# Altium schematic symbol library Transistor_BJT.SchLib: 308 symbols (part 2 of 2)
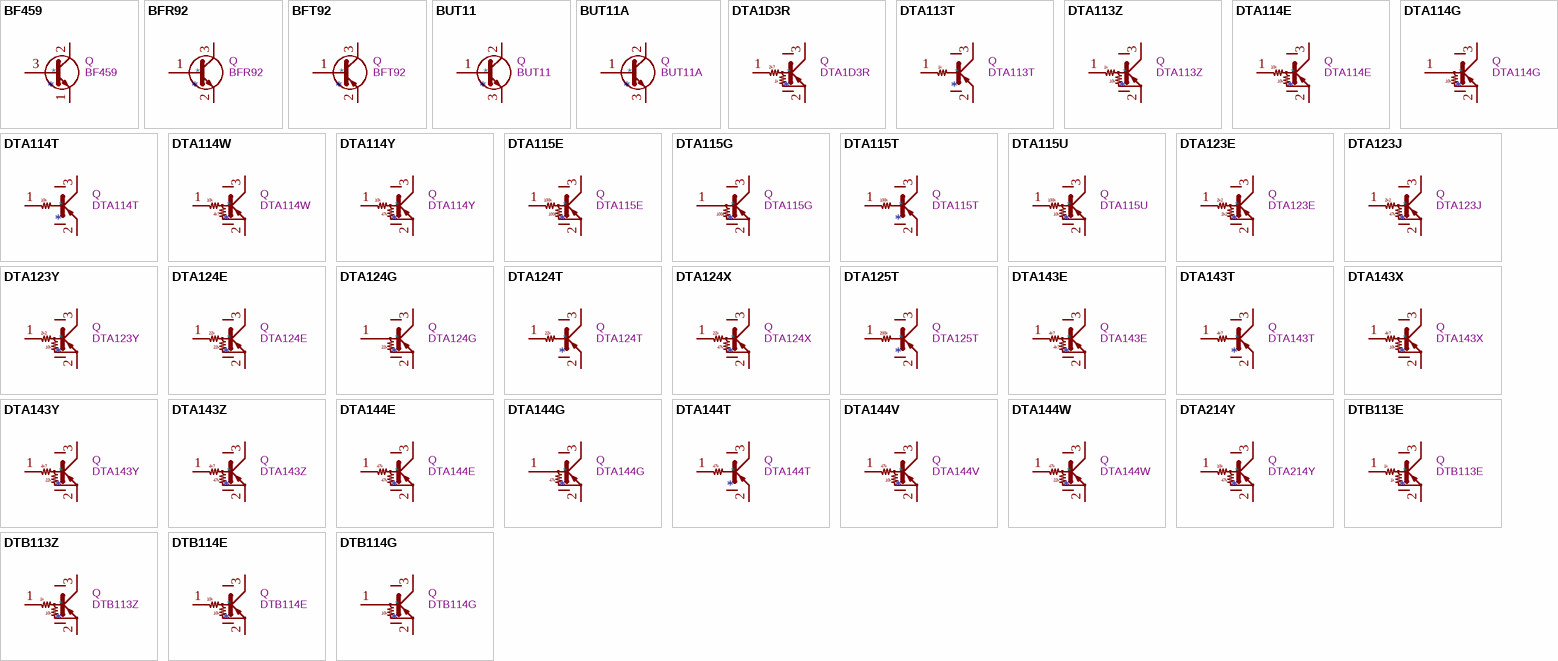
[diagram p9: symbols BF459 to DTB114G]

## DTA114Y
designator *  value DTA114Y  Reference: Q
ki_keywords: ROHM Digital PNP Transistor; ki_description: Digital PNP Transistor, 10k/47k, SOT-23; ki_fp_filters: SOT?23* SC?59*
pins: 1 B, 2 E, 3 C
text: 10k; 47k

## DTA115E
designator *  value DTA115E  Reference: Q
ki_keywords: ROHM Digital PNP Transistor; ki_description: Digital PNP Transistor, 100k/100k, SOT-23; ki_fp_filters: SOT?23* SC?59*
pins: 1 B, 2 E, 3 C
text: 100k

## DTA115G
designator *  value DTA115G  Reference: Q
ki_keywords: ROHM Digital PNP Transistor; ki_description: Digital PNP Transistor, 0k/100k, SOT-23; ki_fp_filters: SOT?23* SC?59*
pins: 1 B, 2 E, 3 C
text: 100k

## DTA115T
designator *  value DTA115T  Reference: Q
ki_keywords: ROHM Digital PNP Transistor; ki_description: Digital PNP Transistor, 100k/NONE, SOT-23; ki_fp_filters: SOT?23* SC?59*
pins: 1 B, 2 E, 3 C
text: 100k

## DTA115U
designator *  value DTA115U  Reference: Q
ki_keywords: ROHM Digital PNP Transistor; ki_description: Digital PNP Transistor, 100k/10k, SOT-23; ki_fp_filters: SOT?23* SC?59*
pins: 1 B, 2 E, 3 C
text: 100k; 10k

## DTA123E
designator *  value DTA123E  Reference: Q
ki_keywords: ROHM Digital PNP Transistor; ki_description: Digital PNP Transistor, 2k2/2k2, SOT-23; ki_fp_filters: SOT?23* SC?59*
pins: 1 B, 2 E, 3 C
text: 2k2

## DTA123J
designator *  value DTA123J  Reference: Q
ki_keywords: ROHM Digital PNP Transistor; ki_description: Digital PNP Transistor, 2k2/47k, SOT-23; ki_fp_filters: SOT?23* SC?59*
pins: 1 B, 2 E, 3 C
text: 2k2; 47k

## DTA123Y
designator *  value DTA123Y  Reference: Q
ki_keywords: ROHM Digital PNP Transistor; ki_description: Digital PNP Transistor, 2k2/10k, SOT-23; ki_fp_filters: SOT?23* SC?59*
pins: 1 B, 2 E, 3 C
text: 2k2; 10k

## DTA124E
designator *  value DTA124E  Reference: Q
ki_keywords: ROHM Digital PNP Transistor; ki_description: Digital PNP Transistor, 22k/22k, SOT-23; ki_fp_filters: SOT?23* SC?59*
pins: 1 B, 2 E, 3 C
text: 22k

## DTA124G
designator *  value DTA124G  Reference: Q
ki_keywords: ROHM Digital PNP Transistor; ki_description: Digital PNP Transistor, 0k/22k, SOT-23; ki_fp_filters: SOT?23* SC?59*
pins: 1 B, 2 E, 3 C
text: 22k

## DTA124T
designator *  value DTA124T  Reference: Q
ki_keywords: ROHM Digital PNP Transistor; ki_description: Digital PNP Transistor, 22k/NONE, SOT-23; ki_fp_filters: SOT?23* SC?59*
pins: 1 B, 2 E, 3 C
text: 22k

## DTA124X
designator *  value DTA124X  Reference: Q
ki_keywords: ROHM Digital PNP Transistor; ki_description: Digital PNP Transistor, 22k/47k, SOT-23; ki_fp_filters: SOT?23* SC?59*
pins: 1 B, 2 E, 3 C
text: 22k; 47k

## DTA125T
designator *  value DTA125T  Reference: Q
ki_keywords: ROHM Digital PNP Transistor; ki_description: Digital PNP Transistor, 200k/NONE, SOT-23; ki_fp_filters: SOT?23* SC?59*
pins: 1 B, 2 E, 3 C
text: 200k

## DTA143E
designator *  value DTA143E  Reference: Q
ki_keywords: ROHM Digital PNP Transistor; ki_description: Digital PNP Transistor, 4k7/4k7, SOT-23; ki_fp_filters: SOT?23* SC?59*
pins: 1 B, 2 E, 3 C
text: 4k7

## DTA143T
designator *  value DTA143T  Reference: Q
ki_keywords: ROHM Digital PNP Transistor; ki_description: Digital PNP Transistor, 4k7/NONE, SOT-23; ki_fp_filters: SOT?23* SC?59*
pins: 1 B, 2 E, 3 C
text: 4k7

## DTA143X
designator *  value DTA143X  Reference: Q
ki_keywords: ROHM Digital PNP Transistor; ki_description: Digital PNP Transistor, 4k7/10k, SOT-23; ki_fp_filters: SOT?23* SC?59*
pins: 1 B, 2 E, 3 C
text: 4k7; 10k

## DTA143Y
designator *  value DTA143Y  Reference: Q
ki_keywords: ROHM Digital PNP Transistor; ki_description: Digital PNP Transistor, 4k7/22k, SOT-23; ki_fp_filters: SOT?23* SC?59*
pins: 1 B, 2 E, 3 C
text: 4k7; 22k

## DTA143Z
designator *  value DTA143Z  Reference: Q
ki_keywords: ROHM Digital PNP Transistor; ki_description: Digital PNP Transistor, 4k7/47k, SOT-23; ki_fp_filters: SOT?23* SC?59*
pins: 1 B, 2 E, 3 C
text: 4k7; 47k

## DTA144E
designator *  value DTA144E  Reference: Q
ki_keywords: ROHM Digital PNP Transistor; ki_description: Digital PNP Transistor, 47k/47k, SOT-23; ki_fp_filters: SOT?23* SC?59*
pins: 1 B, 2 E, 3 C
text: 47k

## DTA144G
designator *  value DTA144G  Reference: Q
ki_keywords: ROHM Digital PNP Transistor; ki_description: Digital PNP Transistor, 0k/47k, SOT-23; ki_fp_filters: SOT?23* SC?59*
pins: 1 B, 2 E, 3 C
text: 47k

## DTA144T
designator *  value DTA144T  Reference: Q
ki_keywords: ROHM Digital PNP Transistor; ki_description: Digital PNP Transistor, 47k/NONE, SOT-23; ki_fp_filters: SOT?23* SC?59*
pins: 1 B, 2 E, 3 C
text: 47k

## DTA144V
designator *  value DTA144V  Reference: Q
ki_keywords: ROHM Digital PNP Transistor; ki_description: Digital PNP Transistor, 47k/10k, SOT-23; ki_fp_filters: SOT?23* SC?59*
pins: 1 B, 2 E, 3 C
text: 47k; 10k

## DTA144W
designator *  value DTA144W  Reference: Q
ki_keywords: ROHM Digital PNP Transistor; ki_description: Digital PNP Transistor, 47k/22k, SOT-23; ki_fp_filters: SOT?23* SC?59*
pins: 1 B, 2 E, 3 C
text: 47k; 22k

## DTA214Y
designator *  value DTA214Y  Reference: Q
ki_keywords: ROHM Digital PNP Transistor; ki_description: Digital PNP Transistor, 10k/47k, SOT-23; ki_fp_filters: SOT?23* SC?59*
pins: 1 B, 2 E, 3 C
text: 10k; 47k

## DTB113E
designator *  value DTB113E  Reference: Q
ki_keywords: ROHM Digital PNP Transistor; ki_description: Digital PNP Transistor, 1k/1k, SOT-23; ki_fp_filters: SOT?23* SC?59*
pins: 1 B, 2 E, 3 C
text: 1k

## DTB113Z
designator *  value DTB113Z  Reference: Q
ki_keywords: ROHM Digital PNP Transistor; ki_description: Digital PNP Transistor, 1k/10k, SOT-23; ki_fp_filters: SOT?23* SC?59*
pins: 1 B, 2 E, 3 C
text: 1k; 10k

## DTB114E
designator *  value DTB114E  Reference: Q
ki_keywords: ROHM Digital PNP Transistor; ki_description: Digital PNP Transistor, 10k/10k, SOT-23; ki_fp_filters: SOT?23* SC?59*
pins: 1 B, 2 E, 3 C
text: 10k

## DTB114G
designator *  value DTB114G  Reference: Q
ki_keywords: ROHM Digital PNP Transistor; ki_description: Digital PNP Transistor, 0k/10k, SOT-23; ki_fp_filters: SOT?23* SC?59*
pins: 1 B, 2 E, 3 C
text: 10k

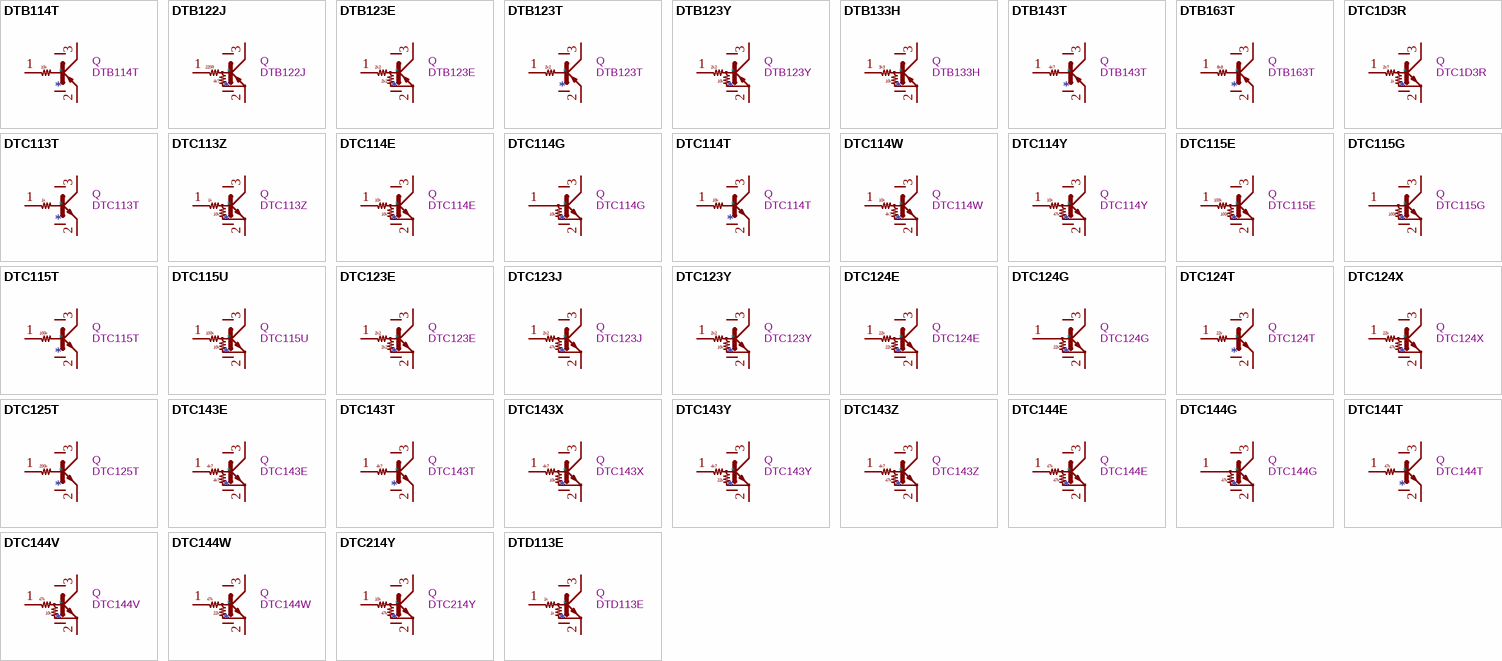
[diagram p5: symbols DTB114T to DTD113E]

## DTB114T
designator *  value DTB114T  Reference: Q
ki_keywords: ROHM Digital PNP Transistor; ki_description: Digital PNP Transistor, 10k/NONE, SOT-23; ki_fp_filters: SOT?23* SC?59*
pins: 1 B, 2 E, 3 C
text: 10k

## DTB122J
designator *  value DTB122J  Reference: Q
ki_keywords: ROHM Digital PNP Transistor; ki_description: Digital PNP Transistor, 0k22/4k7, SOT-23; ki_fp_filters: SOT?23* SC?59*
pins: 1 B, 2 E, 3 C
text: 220R; 4k7

## DTB123E
designator *  value DTB123E  Reference: Q
ki_keywords: ROHM Digital PNP Transistor; ki_description: Digital PNP Transistor, 2k2/2k2, SOT-23; ki_fp_filters: SOT?23* SC?59*
pins: 1 B, 2 E, 3 C
text: 2k2

## DTB123T
designator *  value DTB123T  Reference: Q
ki_keywords: ROHM Digital PNP Transistor; ki_description: Digital PNP Transistor, 2k2/NONE, SOT-23; ki_fp_filters: SOT?23* SC?59*
pins: 1 B, 2 E, 3 C
text: 2k2

## DTB123Y
designator *  value DTB123Y  Reference: Q
ki_keywords: ROHM Digital PNP Transistor; ki_description: Digital PNP Transistor, 2k2/10k, SOT-23; ki_fp_filters: SOT?23* SC?59*
pins: 1 B, 2 E, 3 C
text: 2k2; 10k

## DTB133H
designator *  value DTB133H  Reference: Q
ki_keywords: ROHM Digital PNP Transistor; ki_description: Digital PNP Transistor, 3k3/10k, SOT-23; ki_fp_filters: SOT?23* SC?59*
pins: 1 B, 2 E, 3 C
text: 3k3; 10k

## DTB143T
designator *  value DTB143T  Reference: Q
ki_keywords: ROHM Digital PNP Transistor; ki_description: Digital PNP Transistor, 4k7/NONE, SOT-23; ki_fp_filters: SOT?23* SC?59*
pins: 1 B, 2 E, 3 C
text: 4k7

## DTB163T
designator *  value DTB163T  Reference: Q
ki_keywords: ROHM Digital PNP Transistor; ki_description: Digital PNP Transistor, 6k8/NONE, SOT-23; ki_fp_filters: SOT?23* SC?59*
pins: 1 B, 2 E, 3 C
text: 6k8

## DTC1D3R
designator *  value DTC1D3R  Reference: Q
ki_keywords: ROHM Digital NPN Transistor; ki_description: Digital NPN Transistor, 2k7/1k, SOT-23; ki_fp_filters: SOT?23* SC?59*
pins: 1 B, 2 E, 3 C
text: 2k7; 1k

## DTC113T
designator *  value DTC113T  Reference: Q
ki_keywords: ROHM Digital NPN Transistor; ki_description: Digital NPN Transistor, 1k/NONE, SOT-23; ki_fp_filters: SOT?23* SC?59*
pins: 1 B, 2 E, 3 C
text: 1k

## DTC113Z
designator *  value DTC113Z  Reference: Q
ki_keywords: ROHM Digital NPN Transistor; ki_description: Digital NPN Transistor, 1k/10k, SOT-23; ki_fp_filters: SOT?23* SC?59*
pins: 1 B, 2 E, 3 C
text: 1k; 10k

## DTC114E
designator *  value DTC114E  Reference: Q
ki_keywords: ROHM Digital NPN Transistor; ki_description: Digital NPN Transistor, 10k/10k, SOT-23; ki_fp_filters: SOT?23* SC?59*
pins: 1 B, 2 E, 3 C
text: 10k

## DTC114G
designator *  value DTC114G  Reference: Q
ki_keywords: ROHM Digital NPN Transistor; ki_description: Digital NPN Transistor, 0k/10k, SOT-23; ki_fp_filters: SOT?23* SC?59*
pins: 1 B, 2 E, 3 C
text: 10k

## DTC114T
designator *  value DTC114T  Reference: Q
ki_keywords: ROHM Digital NPN Transistor; ki_description: Digital NPN Transistor, 10k/NONE, SOT-23; ki_fp_filters: SOT?23* SC?59*
pins: 1 B, 2 E, 3 C
text: 10k

## DTC114W
designator *  value DTC114W  Reference: Q
ki_keywords: ROHM Digital NPN Transistor; ki_description: Digital NPN Transistor, 10k/4k7, SOT-23; ki_fp_filters: SOT?23* SC?59*
pins: 1 B, 2 E, 3 C
text: 10k; 4k7

## DTC114Y
designator *  value DTC114Y  Reference: Q
ki_keywords: ROHM Digital NPN Transistor; ki_description: Digital NPN Transistor, 10k/47k, SOT-23; ki_fp_filters: SOT?23* SC?59*
pins: 1 B, 2 E, 3 C
text: 10k; 47k

## DTC115E
designator *  value DTC115E  Reference: Q
ki_keywords: ROHM Digital NPN Transistor; ki_description: Digital NPN Transistor, 100k/100k, SOT-23; ki_fp_filters: SOT?23* SC?59*
pins: 1 B, 2 E, 3 C
text: 100k

## DTC115G
designator *  value DTC115G  Reference: Q
ki_keywords: ROHM Digital NPN Transistor; ki_description: Digital NPN Transistor, 0k/100k, SOT-23; ki_fp_filters: SOT?23* SC?59*
pins: 1 B, 2 E, 3 C
text: 100k

## DTC115T
designator *  value DTC115T  Reference: Q
ki_keywords: ROHM Digital NPN Transistor; ki_description: Digital NPN Transistor, 100k/NONE, SOT-23; ki_fp_filters: SOT?23* SC?59*
pins: 1 B, 2 E, 3 C
text: 100k

## DTC115U
designator *  value DTC115U  Reference: Q
ki_keywords: ROHM Digital NPN Transistor; ki_description: Digital NPN Transistor, 100k/10k, SOT-23; ki_fp_filters: SOT?23* SC?59*
pins: 1 B, 2 E, 3 C
text: 100k; 10k

## DTC123E
designator *  value DTC123E  Reference: Q
ki_keywords: ROHM Digital NPN Transistor; ki_description: Digital NPN Transistor, 2k2/2k2, SOT-23; ki_fp_filters: SOT?23* SC?59*
pins: 1 B, 2 E, 3 C
text: 2k2

## DTC123J
designator *  value DTC123J  Reference: Q
ki_keywords: ROHM Digital NPN Transistor; ki_description: Digital NPN Transistor, 2k2/47k, SOT-23; ki_fp_filters: SOT?23* SC?59*
pins: 1 B, 2 E, 3 C
text: 2k2; 47k

## DTC123Y
designator *  value DTC123Y  Reference: Q
ki_keywords: ROHM Digital NPN Transistor; ki_description: Digital NPN Transistor, 2k2/10k, SOT-23; ki_fp_filters: SOT?23* SC?59*
pins: 1 B, 2 E, 3 C
text: 2k2; 10k

## DTC124E
designator *  value DTC124E  Reference: Q
ki_keywords: ROHM Digital NPN Transistor; ki_description: Digital NPN Transistor, 22k/22k, SOT-23; ki_fp_filters: SOT?23* SC?59*
pins: 1 B, 2 E, 3 C
text: 22k

## DTC124G
designator *  value DTC124G  Reference: Q
ki_keywords: ROHM Digital NPN Transistor; ki_description: Digital NPN Transistor, 0k/22k, SOT-23; ki_fp_filters: SOT?23* SC?59*
pins: 1 B, 2 E, 3 C
text: 22k

## DTC124T
designator *  value DTC124T  Reference: Q
ki_keywords: ROHM Digital NPN Transistor; ki_description: Digital NPN Transistor, 22k/NONE, SOT-23; ki_fp_filters: SOT?23* SC?59*
pins: 1 B, 2 E, 3 C
text: 22k

## DTC124X
designator *  value DTC124X  Reference: Q
ki_keywords: ROHM Digital NPN Transistor; ki_description: Digital NPN Transistor, 22k/47k, SOT-23; ki_fp_filters: SOT?23* SC?59*
pins: 1 B, 2 E, 3 C
text: 22k; 47k

## DTC125T
designator *  value DTC125T  Reference: Q
ki_keywords: ROHM Digital NPN Transistor; ki_description: Digital NPN Transistor, 200k/NONE, SOT-23; ki_fp_filters: SOT?23* SC?59*
pins: 1 B, 2 E, 3 C
text: 200k

## DTC143E
designator *  value DTC143E  Reference: Q
ki_keywords: ROHM Digital NPN Transistor; ki_description: Digital NPN Transistor, 4k7/4k7, SOT-23; ki_fp_filters: SOT?23* SC?59*
pins: 1 B, 2 E, 3 C
text: 4k7

## DTC143T
designator *  value DTC143T  Reference: Q
ki_keywords: ROHM Digital NPN Transistor; ki_description: Digital NPN Transistor, 4k7/NONE, SOT-23; ki_fp_filters: SOT?23* SC?59*
pins: 1 B, 2 E, 3 C
text: 4k7

## DTC143X
designator *  value DTC143X  Reference: Q
ki_keywords: ROHM Digital NPN Transistor; ki_description: Digital NPN Transistor, 4k7/10k, SOT-23; ki_fp_filters: SOT?23* SC?59*
pins: 1 B, 2 E, 3 C
text: 4k7; 10k

## DTC143Y
designator *  value DTC143Y  Reference: Q
ki_keywords: ROHM Digital NPN Transistor; ki_description: Digital NPN Transistor, 4k7/22k, SOT-23; ki_fp_filters: SOT?23* SC?59*
pins: 1 B, 2 E, 3 C
text: 4k7; 22k

## DTC143Z
designator *  value DTC143Z  Reference: Q
ki_keywords: ROHM Digital NPN Transistor; ki_description: Digital NPN Transistor, 4k7/47k, SOT-23; ki_fp_filters: SOT?23* SC?59*
pins: 1 B, 2 E, 3 C
text: 4k7; 47k

## DTC144E
designator *  value DTC144E  Reference: Q
ki_keywords: ROHM Digital NPN Transistor; ki_description: Digital NPN Transistor, 47k/47k, SOT-23; ki_fp_filters: SOT?23* SC?59*
pins: 1 B, 2 E, 3 C
text: 47k

## DTC144G
designator *  value DTC144G  Reference: Q
ki_keywords: ROHM Digital NPN Transistor; ki_description: Digital NPN Transistor, 0k/47k, SOT-23; ki_fp_filters: SOT?23* SC?59*
pins: 1 B, 2 E, 3 C
text: 47k

## DTC144T
designator *  value DTC144T  Reference: Q
ki_keywords: ROHM Digital NPN Transistor; ki_description: Digital NPN Transistor, 47k/NONE, SOT-23; ki_fp_filters: SOT?23* SC?59*
pins: 1 B, 2 E, 3 C
text: 47k

## DTC144V
designator *  value DTC144V  Reference: Q
ki_keywords: ROHM Digital NPN Transistor; ki_description: Digital NPN Transistor, 47k/10k, SOT-23; ki_fp_filters: SOT?23* SC?59*
pins: 1 B, 2 E, 3 C
text: 47k; 10k

## DTC144W
designator *  value DTC144W  Reference: Q
ki_keywords: ROHM Digital NPN Transistor; ki_description: Digital NPN Transistor, 47k/22k, SOT-23; ki_fp_filters: SOT?23* SC?59*
pins: 1 B, 2 E, 3 C
text: 47k; 22k

## DTC214Y
designator *  value DTC214Y  Reference: Q
ki_keywords: ROHM Digital NPN Transistor; ki_description: Digital NPN Transistor, 10k/47k, SOT-23; ki_fp_filters: SOT?23* SC?59*
pins: 1 B, 2 E, 3 C
text: 10k; 47k

## DTD113E
designator *  value DTD113E  Reference: Q
ki_keywords: ROHM Digital NPN Transistor; ki_description: Digital NPN Transistor, 1k/1k, SOT-23; ki_fp_filters: SOT?23* SC?59*
pins: 1 B, 2 E, 3 C
text: 1k

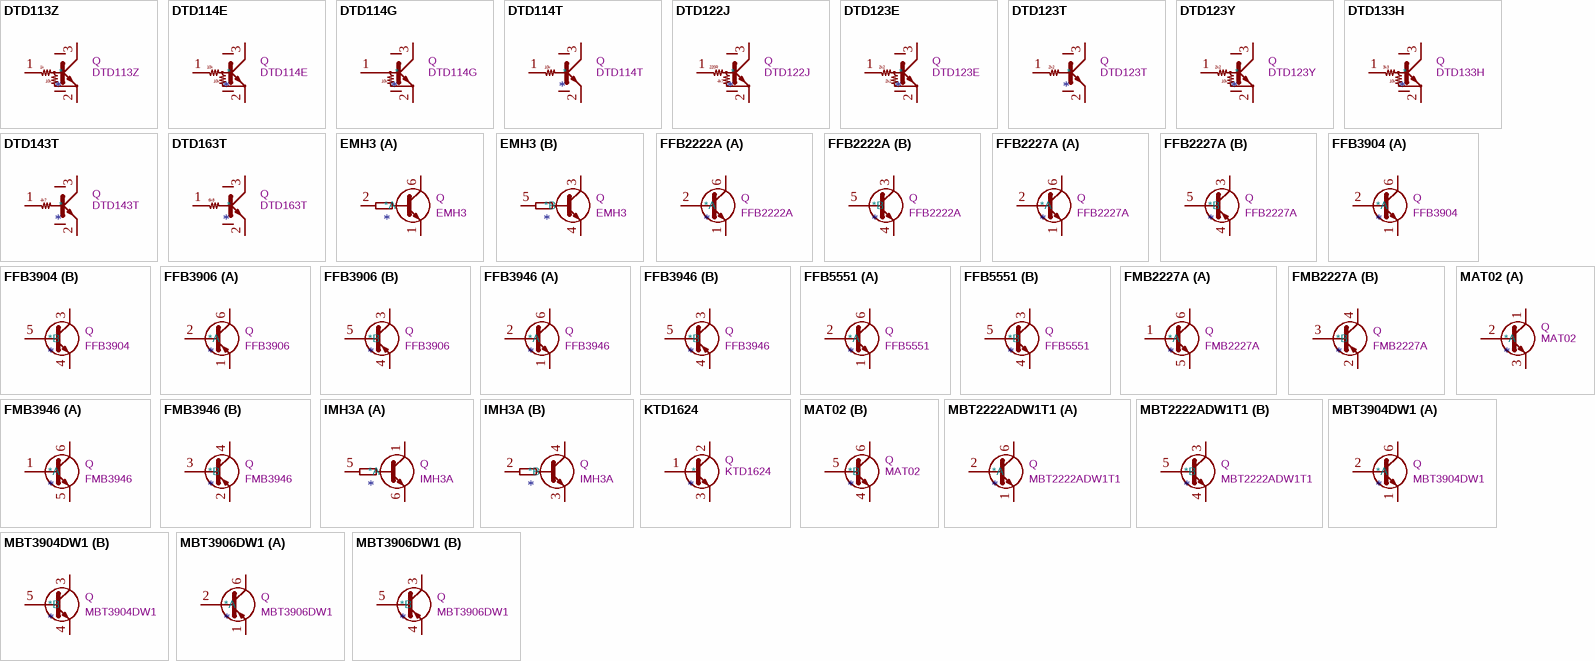
[diagram p6: symbols DTD113Z to MBT3906DW1]

## DTD113Z
designator *  value DTD113Z  Reference: Q
ki_keywords: ROHM Digital NPN Transistor; ki_description: Digital NPN Transistor, 1k/10k, SOT-23; ki_fp_filters: SOT?23* SC?59*
pins: 1 B, 2 E, 3 C
text: 1k; 10k

## DTD114E
designator *  value DTD114E  Reference: Q
ki_keywords: ROHM Digital NPN Transistor; ki_description: Digital NPN Transistor, 10k/10k, SOT-23; ki_fp_filters: SOT?23* SC?59*
pins: 1 B, 2 E, 3 C
text: 10k

## DTD114G
designator *  value DTD114G  Reference: Q
ki_keywords: ROHM Digital NPN Transistor; ki_description: Digital NPN Transistor, 0k/10k, SOT-23; ki_fp_filters: SOT?23* SC?59*
pins: 1 B, 2 E, 3 C
text: 10k

## DTD114T
designator *  value DTD114T  Reference: Q
ki_keywords: ROHM Digital NPN Transistor; ki_description: Digital NPN Transistor, 10k/NONE, SOT-23; ki_fp_filters: SOT?23* SC?59*
pins: 1 B, 2 E, 3 C
text: 10k

## DTD122J
designator *  value DTD122J  Reference: Q
ki_keywords: ROHM Digital NPN Transistor; ki_description: Digital NPN Transistor, 0k22/4k7, SOT-23; ki_fp_filters: SOT?23* SC?59*
pins: 1 B, 2 E, 3 C
text: 220R; 4k7

## DTD123E
designator *  value DTD123E  Reference: Q
ki_keywords: ROHM Digital NPN Transistor; ki_description: Digital NPN Transistor, 2k2/2k2, SOT-23; ki_fp_filters: SOT?23* SC?59*
pins: 1 B, 2 E, 3 C
text: 2k2

## DTD123T
designator *  value DTD123T  Reference: Q
ki_keywords: ROHM Digital NPN Transistor; ki_description: Digital NPN Transistor, 2k2/NONE, SOT-23; ki_fp_filters: SOT?23* SC?59*
pins: 1 B, 2 E, 3 C
text: 2k2

## DTD123Y
designator *  value DTD123Y  Reference: Q
ki_keywords: ROHM Digital NPN Transistor; ki_description: Digital NPN Transistor, 2k2/10k, SOT-23; ki_fp_filters: SOT?23* SC?59*
pins: 1 B, 2 E, 3 C
text: 2k2; 10k

## DTD133H
designator *  value DTD133H  Reference: Q
ki_keywords: ROHM Digital NPN Transistor; ki_description: Digital NPN Transistor, 3k3/10k, SOT-23; ki_fp_filters: SOT?23* SC?59*
pins: 1 B, 2 E, 3 C
text: 3k3; 10k

## DTD143T
designator *  value DTD143T  Reference: Q
ki_keywords: ROHM Digital NPN Transistor; ki_description: Digital NPN Transistor, 4k7/NONE, SOT-23; ki_fp_filters: SOT?23* SC?59*
pins: 1 B, 2 E, 3 C
text: 4k7

## DTD163T
designator *  value DTD163T  Reference: Q
ki_keywords: ROHM Digital NPN Transistor; ki_description: Digital NPN Transistor, 6k8/NONE, SOT-23; ki_fp_filters: SOT?23* SC?59*
pins: 1 B, 2 E, 3 C
text: 6k8

## EMH3
designator *  value EMH3  Reference: Q
ki_keywords: Dual NPN Transistor; ki_description: 0.1A Ic, 50V Vce, Dual NPN Input Resistor Transistors, SOT-563; ki_fp_filters: SOT?563*; Footprint: Package_TO_SOT_SMD:SOT-563; Datasheet: http://rohmfs.rohm.com/en/products/databook/datasheet/discrete/transistor/digital/emh3t2r-e.pdf
part A pins: 1 E1, 2 B1, 6 C1
part B pins: 3 C2, 4 E2, 5 B2

## FFB2222A
designator *  value FFB2222A  Reference: Q
ki_keywords: NPN/NPN Transistor; ki_description: 600mA IC, 40V Vce, Dual NPN/NPN Transistors, SOT-363; ki_fp_filters: SOT?363*; Footprint: Package_TO_SOT_SMD:SOT-363_SC-70-6; Datasheet: https://www.onsemi.com/pub/Collateral/MMPQ2222A-D.pdf
part A pins: 1 E1, 2 B1, 6 C1
part B pins: 3 C2, 4 E2, 5 B2

## FFB2227A
designator *  value FFB2227A  Reference: Q
ki_keywords: NPN/PNP Transistor; ki_description: 500mA IC, 30V Vce, Dual NPN/PNP Transistors, SC-70-6; ki_fp_filters: SOT?363*; Footprint: Package_TO_SOT_SMD:SOT-363_SC-70-6; Datasheet: http://www.onsemi.com/pub/Collateral/FMB2227A-D.PDF
part A pins: 1 E1, 2 B1, 6 C1
part B pins: 3 C2, 4 E2, 5 B2

## FFB3904
designator *  value FFB3904  Reference: Q
ki_keywords: NPN/NPN Transistor; ki_description: 200mA IC, 40V Vce, Dual NPN/NPN Transistors, SOT-363; ki_fp_filters: SOT?363*; Footprint: Package_TO_SOT_SMD:SOT-363_SC-70-6; Datasheet: https://www.onsemi.com/pub/Collateral/MMPQ3904-D.pdf
part A pins: 1 E1, 2 B1, 6 C1
part B pins: 3 C2, 4 E2, 5 B2

## FFB3906
designator *  value FFB3906  Reference: Q
ki_keywords: PNP/PNP Transistor; ki_description: 200mA IC, 40V Vce, Dual PNP/PNP Transistors, SOT-363; ki_fp_filters: SOT?363*; Footprint: Package_TO_SOT_SMD:SOT-363_SC-70-6; Datasheet: https://www.onsemi.com/pub/Collateral/MMPQ3906-D.pdf
part A pins: 1 E1, 2 B1, 6 C1
part B pins: 3 C2, 4 E2, 5 B2

## FFB3946
designator *  value FFB3946  Reference: Q
ki_keywords: NPN/PNP Transistor; ki_description: 200mA IC, 40V Vce, Dual NPN/PNP Transistors, SOT-363; ki_fp_filters: SOT?363*; Footprint: Package_TO_SOT_SMD:SOT-363_SC-70-6; Datasheet: http://www.onsemi.com/pub/Collateral/FMB3946-D.pdf
part A pins: 1 E1, 2 B1, 6 C1
part B pins: 3 C2, 4 E2, 5 B2

## FFB5551
designator *  value FFB5551  Reference: Q
ki_keywords: NPN/NPN Transistor; ki_description: 200mA IC, 160V Vce, Dual NPN/NPN Transistors, SOT-363; ki_fp_filters: SOT?363*; Footprint: Package_TO_SOT_SMD:SOT-363_SC-70-6; Datasheet: https://www.onsemi.com/pub/Collateral/FFB5551-D.PDF
part A pins: 1 E1, 2 B1, 6 C1
part B pins: 3 C2, 4 E2, 5 B2

## FMB2227A
designator *  value FMB2227A  Reference: Q
ki_keywords: NPN/PNP Transistor; ki_description: 500mA IC, 30V Vce, Dual NPN/PNP Transistors, SuperSOT-6; ki_fp_filters: SuperSOT*; Footprint: Package_TO_SOT_SMD:SuperSOT-6; Datasheet: http://www.onsemi.com/pub/Collateral/FMB2227A-D.PDF
part A pins: 1 B1, 5 E1, 6 C1
part B pins: 2 E2, 3 B2, 4 C2

## FMB3946
designator *  value FMB3946  Reference: Q
ki_keywords: NPN/PNP Transistor; ki_description: 200mA IC, 40V Vce, Dual NPN/PNP Transistors, SuperSOT-6; ki_fp_filters: SuperSOT*; Footprint: Package_TO_SOT_SMD:SuperSOT-6; Datasheet: http://www.onsemi.com/pub/Collateral/FMB3946-D.pdf
part A pins: 1 B1, 5 E1, 6 C1
part B pins: 2 E2, 3 B2, 4 C2

## IMH3A
designator *  value IMH3A  Reference: Q
ki_keywords: Dual NPN Transistor; ki_description: 0.1A Ic, 50V Vce, Dual NPN Input Resistor Transistors, SOT-457; ki_fp_filters: ROHM*SOT?457*; Footprint: Package_SO:ROHM_SOT-457_ClockwisePinNumbering; Datasheet: http://rohmfs.rohm.com/en/products/databook/datasheet/discrete/transistor/digital/emh3t2r-e.pdf
part A pins: 1 C1, 5 B1, 6 E1
part B pins: 2 B2, 3 E2, 4 C2

## KTD1624
designator *  value KTD1624  Reference: Q
ki_keywords: Switching NPN Transistor; ki_description: Epitaxial Planar NPN Transistor, SOT-89; ki_fp_filters: SOT?89*; Footprint: Package_TO_SOT_SMD:SOT-89-3; Datasheet: http://www2.kec.co.kr/data/databook/pdf/KTD/Eng/KTD1624.pdf
pins: 1 B, 2 C, 3 E

## MAT02
designator *  value MAT02  Reference: Q
ki_keywords: Precision Dual Monolithic Transistor Low Noise EOL; ki_description: 20mA Ic, 40V Vce, Precision Dual Monolithic Low Noise, Low Offset Transistor, TO-78; ki_fp_filters: TO?78*; Footprint: Package_TO_SOT_THT:TO-78-6; Datasheet: http://www.elenota.pl/datasheet_download/93431/MAT02
part A pins: 1 C, 2 B, 3 E
part B pins: 4 E, 5 B, 6 C

## MBT2222ADW1T1
designator *  value MBT2222ADW1T1  Reference: Q
ki_keywords: NPN/NPN Transistor; ki_description: 600mA IC, 40V Vce, Dual NPN/NPN Transistors, SOT-363; ki_fp_filters: SOT?363*; Footprint: Package_TO_SOT_SMD:SOT-363_SC-70-6; Datasheet: http://www.onsemi.com/pub_link/Collateral/MBT2222ADW1T1-D.PDF
part A pins: 1 E1, 2 B1, 6 C1
part B pins: 3 C2, 4 E2, 5 B2

## MBT3904DW1
designator *  value MBT3904DW1  Reference: Q
ki_keywords: NPN/NPN Transistor; ki_description: 200mA IC, 40V Vce, Dual NPN/NPN Transistors, SOT-363; ki_fp_filters: SOT?363*; Footprint: Package_TO_SOT_SMD:SOT-363_SC-70-6; Datasheet: http://www.onsemi.com/pub_link/Collateral/MBT3904DW1T1-D.PDF
part A pins: 1 E1, 2 B1, 6 C1
part B pins: 3 C2, 4 E2, 5 B2

## MBT3906DW1
designator *  value MBT3906DW1  Reference: Q
ki_keywords: PNP/PNP Transistor; ki_description: 200mA IC, 40V Vce, Dual PNP/PNP Transistors, SOT-363; ki_fp_filters: SOT?363*; Footprint: Package_TO_SOT_SMD:SOT-363_SC-70-6; Datasheet: http://www.onsemi.com/pub_link/Collateral/MBT3906DW1T1-D.PDF
part A pins: 1 E1, 2 B1, 6 C1
part B pins: 3 C2, 4 E2, 5 B2

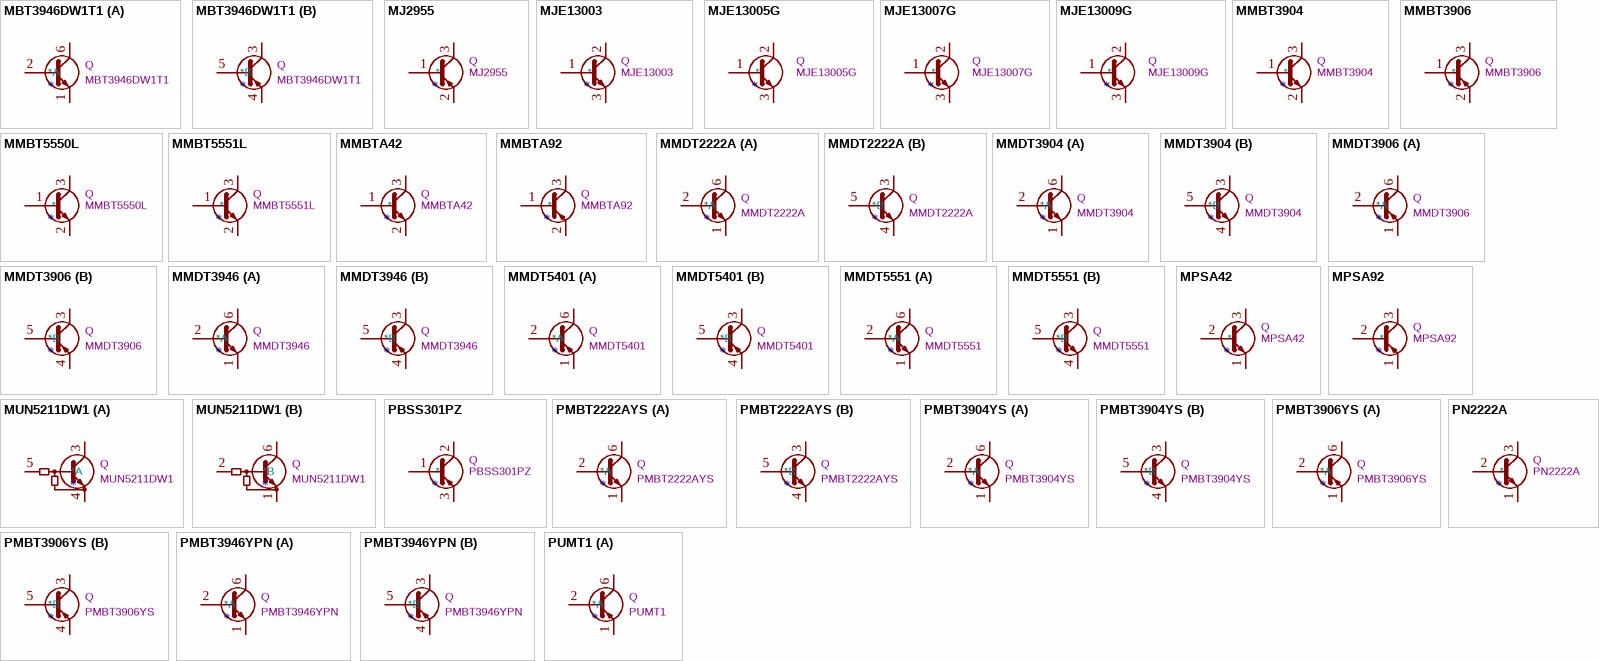
[diagram p7: symbols MBT3946DW1T1 to PUMT1]

## MBT3946DW1T1
designator *  value MBT3946DW1T1  Reference: Q
ki_keywords: NPN/PNP Transistor; ki_description: 200mA IC, 40V Vce, Dual NPN/PNP Transistors, SOT-363; ki_fp_filters: SOT?363*; Footprint: Package_TO_SOT_SMD:SOT-363_SC-70-6; Datasheet: http://www.onsemi.com/pub_link/Collateral/MBT3946DW1T1-D.PDF
part A pins: 1 E1, 2 B1, 6 C1
part B pins: 3 C2, 4 E2, 5 B2

## MJ2955
designator *  value MJ2955  Reference: Q
ki_keywords: power PNP Transistor; ki_description: -15A Ic, -60V Vce, Power PNP Transistor, TO-3; ki_fp_filters: TO?3*; Footprint: Package_TO_SOT_THT:TO-3; Datasheet: http://www.onsemi.com/pub_link/Collateral/2N3055-D.PDF
pins: 1 B, 2 E, 3 C

## MJE13003
designator *  value MJE13003  Reference: Q
ki_keywords: Switching Power High Voltage NPN Transistor; ki_description: 1.5A Ic, 400V Vce, Silicon Switching Power NPN Transistor, TO-225; ki_fp_filters: TO?126*; Footprint: Package_TO_SOT_THT:TO-126-3_Vertical; Datasheet: http://www.onsemi.com/pub_link/Collateral/MJE13003-D.PDF
pins: 1 B, 2 C, 3 E

## MJE13005G
designator *  value MJE13005G  Reference: Q
ki_keywords: Switching Power NPN Transistor; ki_description: 4A Ic, 400V Vce, Silicon Switching Power NPN Transistors, TO-220; ki_fp_filters: TO?220*; Footprint: Package_TO_SOT_THT:TO-220-3_Vertical; Datasheet: http://www.onsemi.com/pub_link/Collateral/MJE13005-D.PDF
pins: 1 B, 2 C, 3 E

## MJE13007G
designator *  value MJE13007G  Reference: Q
ki_keywords: Switching Power NPN Transistor; ki_description: 8A Ic, 400V Vce, Silicon Switching Power NPN Transistors, TO-220; ki_fp_filters: TO?220*; Footprint: Package_TO_SOT_THT:TO-220-3_Vertical; Datasheet: http://www.onsemi.com/pub_link/Collateral/MJE13007-D.PDF
pins: 1 B, 2 C, 3 E

## MJE13009G
designator *  value MJE13009G  Reference: Q
ki_keywords: Switching Power NPN Transistor; ki_description: 12A Ic, 400V Vce, Silicon Switching Power NPN Transistors, TO-220; ki_fp_filters: TO?220*; Footprint: Package_TO_SOT_THT:TO-220-3_Vertical; Datasheet: http://www.onsemi.com/pub_link/Collateral/MJE13009-D.PDF
pins: 1 B, 2 C, 3 E

## MMBT3904
designator *  value MMBT3904  Reference: Q
ki_keywords: NPN Transistor; ki_description: 0.2A Ic, 40V Vce, Small Signal NPN Transistor, SOT-23; ki_fp_filters: SOT?23*; Footprint: Package_TO_SOT_SMD:SOT-23; Datasheet: https://www.onsemi.com/pdf/datasheet/pzt3904-d.pdf
pins: 1 B, 2 E, 3 C

## MMBT3906
designator *  value MMBT3906  Reference: Q
ki_keywords: PNP Transistor; ki_description: -0.2A Ic, -40V Vce, Small Signal PNP Transistor, SOT-23; ki_fp_filters: SOT?23*; Footprint: Package_TO_SOT_SMD:SOT-23; Datasheet: https://www.onsemi.com/pdf/datasheet/pzt3906-d.pdf
pins: 1 B, 2 E, 3 C

## MMBT5550L
designator *  value MMBT5550L  Reference: Q
ki_keywords: NPN Transistor; ki_description: 0.6A Ic, 140V Vce, NPN Transistor, SOT-23; ki_fp_filters: SOT?23*; Footprint: Package_TO_SOT_SMD:SOT-23; Datasheet: www.onsemi.com/pub/Collateral/MMBT5550LT1-D.PDF
pins: 1 B, 2 E, 3 C

## MMBT5551L
designator *  value MMBT5551L  Reference: Q
ki_keywords: NPN Transistor; ki_description: 0.6A Ic, 160V Vce, NPN Transistor, SOT-23; ki_fp_filters: SOT?23*; Footprint: Package_TO_SOT_SMD:SOT-23; Datasheet: www.onsemi.com/pub/Collateral/MMBT5550LT1-D.PDF
pins: 1 B, 2 E, 3 C

## MMBTA42
designator *  value MMBTA42  Reference: Q
ki_keywords: NPN High Voltage Transistor; ki_description: 0.5A Ic, 300V Vce, NPN High Voltage Transistor, SOT-23; ki_fp_filters: SOT?23*; Footprint: Package_TO_SOT_SMD:SOT-23; Datasheet: https://www.onsemi.com/pub/Collateral/MMBTA42LT1-D.PDF
pins: 1 B, 2 E, 3 C

## MMBTA92
designator *  value MMBTA92  Reference: Q
ki_keywords: PNP High Voltage Transistor; ki_description: 0.5A Ic, 300V Vce, PNP High Voltage Transistor, SOT-23; ki_fp_filters: SOT?23*; Footprint: Package_TO_SOT_SMD:SOT-23; Datasheet: https://www.onsemi.com/pub/Collateral/MMBTA92LT1-D.PDF
pins: 1 B, 2 E, 3 C

## MMDT2222A
designator *  value MMDT2222A  Reference: Q
ki_keywords: NPN/NPN Transistor; ki_description: 600mA IC, 40V Vce, Dual NPN/NPN Transistors, SOT-363; ki_fp_filters: SOT?363*; Footprint: Package_TO_SOT_SMD:SOT-363_SC-70-6; Datasheet: http://www.diodes.com/_files/datasheets/ds30125.pdf
part A pins: 1 E1, 2 B1, 6 C1
part B pins: 3 C2, 4 E2, 5 B2

## MMDT3904
designator *  value MMDT3904  Reference: Q
ki_keywords: NPN/NPN Transistor; ki_description: 200mA IC, 40V Vce, Dual NPN/NPN Transistors, SOT-363; ki_fp_filters: SOT?363*; Footprint: Package_TO_SOT_SMD:SOT-363_SC-70-6; Datasheet: http://www.diodes.com/_files/datasheets/ds30088.pdf
part A pins: 1 E1, 2 B1, 6 C1
part B pins: 3 C2, 4 E2, 5 B2

## MMDT3906
designator *  value MMDT3906  Reference: Q
ki_keywords: PNP/PNP Transistor; ki_description: 200mA IC, 40V Vce, Dual PNP/PNP Transistors, SOT-363; ki_fp_filters: SOT?363*; Footprint: Package_TO_SOT_SMD:SOT-363_SC-70-6; Datasheet: http://www.diodes.com/_files/datasheets/ds30124.pdf
part A pins: 1 E1, 2 B1, 6 C1
part B pins: 3 C2, 4 E2, 5 B2

## MMDT3946
designator *  value MMDT3946  Reference: Q
ki_keywords: NPN/PNP Transistor; ki_description: 200mA IC, 40V Vce, Dual NPN/PNP Transistors, SOT-363; ki_fp_filters: SOT?363*; Footprint: Package_TO_SOT_SMD:SOT-363_SC-70-6; Datasheet: http://www.diodes.com/_files/datasheets/ds30123.pdf
part A pins: 1 E1, 2 B1, 6 C1
part B pins: 3 C2, 4 E2, 5 B2

## MMDT5401
designator *  value MMDT5401  Reference: Q
ki_keywords: PNP/PNP Transistor; ki_description: 200mA IC, 160V Vce, Dual PNP/PNP Transistors, SOT-363; ki_fp_filters: SOT?363*; Footprint: Package_TO_SOT_SMD:SOT-363_SC-70-6; Datasheet: http://www.diodes.com/_files/datasheets/ds30169.pdf
part A pins: 1 E1, 2 B1, 6 C1
part B pins: 3 C2, 4 E2, 5 B2

## MMDT5551
designator *  value MMDT5551  Reference: Q
ki_keywords: NPN/NPN Transistor; ki_description: 200mA IC, 160V Vce, Dual NPN/NPN Transistors, SOT-363; ki_fp_filters: SOT?363*; Footprint: Package_TO_SOT_SMD:SOT-363_SC-70-6; Datasheet: http://www.diodes.com/_files/datasheets/ds30172.pdf
part A pins: 1 E1, 2 B1, 6 C1
part B pins: 3 C2, 4 E2, 5 B2

## MPSA42
designator *  value MPSA42  Reference: Q
ki_keywords: NPN High Voltage Transistor; ki_description: 0.5A Ic, 300V Vce, NPN High Voltage Transistor, TO-92; ki_fp_filters: TO?92*; Footprint: Package_TO_SOT_THT:TO-92_Inline; Datasheet: http://www.onsemi.com/pub_link/Collateral/MPSA42-D.PDF
pins: 1 E, 2 B, 3 C

## MPSA92
designator *  value MPSA92  Reference: Q
ki_keywords: PNP High Voltage Transistor; ki_description: 0.5A Ic, 300V Vce, PNP High Voltage Transistor, TO-92; ki_fp_filters: TO?92*; Footprint: Package_TO_SOT_THT:TO-92_Inline; Datasheet: http://www.onsemi.com/pub_link/Collateral/MPSA92-D.PDF
pins: 1 E, 2 B, 3 C

## MUN5211DW1
designator *  value MUN5211DW1  Reference: Q
ki_keywords: Dual NPN Transistor; ki_description: 0.1A Ic, 50V Vce, Dual NPN Bias Resistor Transistors, SOT-363; ki_fp_filters: SOT*363*; Footprint: Package_TO_SOT_SMD:SOT-363_SC-70-6; Datasheet: http://www.onsemi.com/pub/Collateral/DTC114ED-D.PDF
part A pins: 3 C1, 4 E1, 5 B1
part B pins: 1 E2, 2 B2, 6 C2

## PBSS301PZ
designator *  value PBSS301PZ  Reference: Q
ki_keywords: PNP Transistor; ki_description: -5.7A Ic, -12V Vce, Small Signal PNP Transistor, SOT-223; ki_fp_filters: SOT?223*; Footprint: Package_TO_SOT_SMD:SOT-223-3_TabPin2; Datasheet: https://assets.nexperia.com/documents/data-sheet/PBSS301PZ.pdf
pins: 1 B, 2 C, 3 E, 4 C hidden

## PMBT2222AYS
designator *  value PMBT2222AYS  Reference: Q
ki_keywords: NPN/NPN Transistor; ki_description: 600mA IC, 40V Vce, Dual NPN/NPN Transistors, SOT-363; ki_fp_filters: SOT?363*; Footprint: Package_TO_SOT_SMD:SOT-363_SC-70-6; Datasheet: https://assets.nexperia.com/documents/data-sheet/PMBT2222AYS.pdf
part A pins: 1 E1, 2 B1, 6 C1
part B pins: 3 C2, 4 E2, 5 B2

## PMBT3904YS
designator *  value PMBT3904YS  Reference: Q
ki_keywords: NPN/NPN Transistor; ki_description: 200mA IC, 40V Vce, Dual NPN/NPN Transistors, SOT-363; ki_fp_filters: SOT?363*; Footprint: Package_TO_SOT_SMD:SOT-363_SC-70-6; Datasheet: https://assets.nexperia.com/documents/data-sheet/PMBT3904YS.pdf
part A pins: 1 E1, 2 B1, 6 C1
part B pins: 3 C2, 4 E2, 5 B2

## PMBT3906YS
designator *  value PMBT3906YS  Reference: Q
ki_keywords: PNP/PNP Transistor; ki_description: 200mA IC, 40V Vce, Dual PNP/PNP Transistors, SOT-363; ki_fp_filters: SOT?363*; Footprint: Package_TO_SOT_SMD:SOT-363_SC-70-6; Datasheet: https://assets.nexperia.com/documents/data-sheet/PMBT3906YS.pdf
part A pins: 1 E1, 2 B1, 6 C1
part B pins: 3 C2, 4 E2, 5 B2

## PMBT3946YPN
designator *  value PMBT3946YPN  Reference: Q
ki_keywords: NPN/PNP Transistor; ki_description: 200mA IC, 40V Vce, Dual NPN/PNP Transistors, SOT-363; ki_fp_filters: SOT?363*; Footprint: Package_TO_SOT_SMD:SOT-363_SC-70-6; Datasheet: https://assets.nexperia.com/documents/data-sheet/PMBT3946YPN.pdf
part A pins: 1 E1, 2 B1, 6 C1
part B pins: 3 C2, 4 E2, 5 B2

## PN2222A
designator *  value PN2222A  Reference: Q
ki_keywords: NPN Transistor; ki_description: 1A Ic, 40V Vce, NPN Transistor, General Purpose Transistor, TO-92; ki_fp_filters: TO?92*; Footprint: Package_TO_SOT_THT:TO-92_Inline; Datasheet: https://www.onsemi.com/pub/Collateral/PN2222-D.PDF
pins: 1 E, 2 B, 3 C

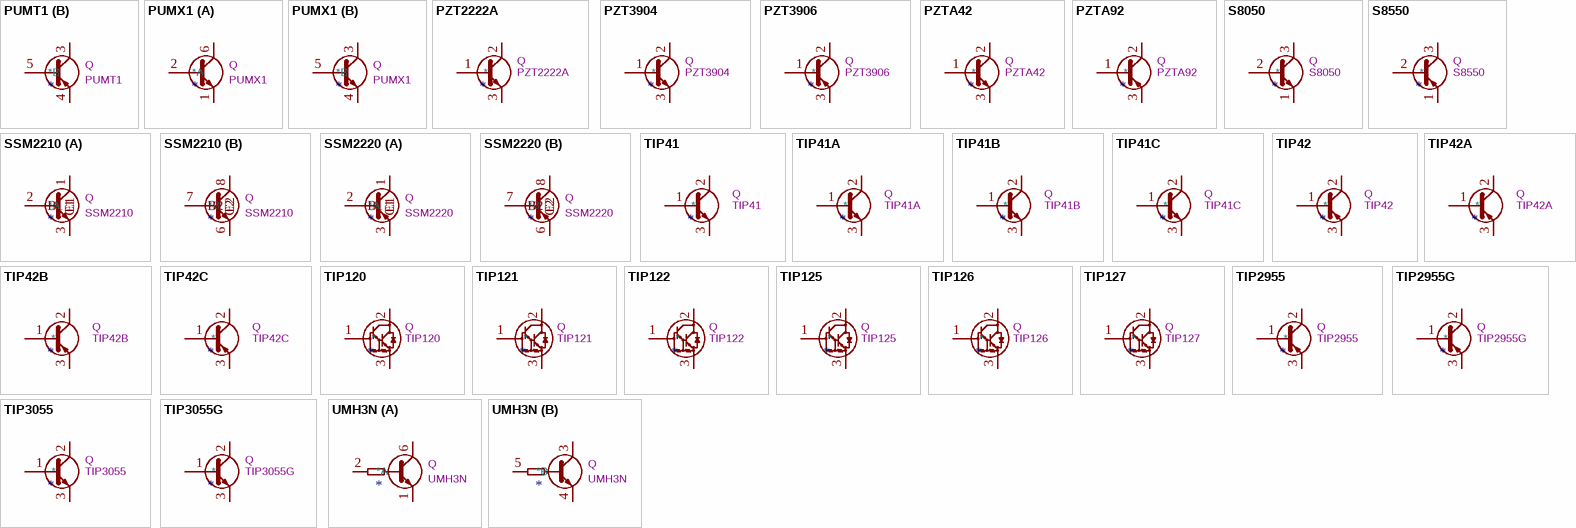
[diagram p8: symbols PUMT1 to UMH3N]

## PUMT1
designator *  value PUMT1  Reference: Q
ki_keywords: PNP/PNP Transistor; ki_description: 100mA IC, 40V Vce, Dual PNP/PNP Transistors, SOT-363; ki_fp_filters: SOT?363*; Footprint: Package_TO_SOT_SMD:SOT-363_SC-70-6; Datasheet: https://assets.nexperia.com/documents/data-sheet/PUMT1.pdf
part A pins: 1 E1, 2 B1, 6 C1
part B pins: 3 C2, 4 E2, 5 B2

## PUMX1
designator *  value PUMX1  Reference: Q
ki_keywords: NPN/NPN Transistor; ki_description: 100mA IC, 40V Vce, Dual NPN/NPN Transistors, SOT-363; ki_fp_filters: SOT?363*; Footprint: Package_TO_SOT_SMD:SOT-363_SC-70-6; Datasheet: https://assets.nexperia.com/documents/data-sheet/PUMX1.pdf
part A pins: 1 E1, 2 B1, 6 C1
part B pins: 3 C2, 4 E2, 5 B2

## PZT2222A
designator *  value PZT2222A  Reference: Q
ki_keywords: NPN General Puprose Transistor SMD; ki_description: 1A Ic, 40V Vce, NPN Transistor, General Purpose Transistor, SOT-223; ki_fp_filters: SOT?223*; Footprint: Package_TO_SOT_SMD:SOT-223-3_TabPin2; Datasheet: https://www.onsemi.com/pub/Collateral/PN2222-D.PDF
pins: 1 B, 2 C, 3 E

## PZT3904
designator *  value PZT3904  Reference: Q
ki_keywords: NPN Transistor; ki_description: 0.2A Ic, 40V Vce, Small Signal NPN Transistor, SOT-223; ki_fp_filters: SOT?223*; Footprint: Package_TO_SOT_SMD:SOT-223-3_TabPin2; Datasheet: https://www.onsemi.com/pdf/datasheet/pzt3904-d.pdf
pins: 1 B, 2 C, 3 E, 4 C hidden

## PZT3906
designator *  value PZT3906  Reference: Q
ki_keywords: PNP Transistor; ki_description: -0.2A Ic, -40V Vce, Small Signal PNP Transistor, SOT-223; ki_fp_filters: SOT?223*; Footprint: Package_TO_SOT_SMD:SOT-223-3_TabPin2; Datasheet: https://www.onsemi.com/pdf/datasheet/pzt3906-d.pdf
pins: 1 B, 2 C, 3 E, 4 C hidden

## PZTA42
designator *  value PZTA42  Reference: Q
ki_keywords: NPN High Voltage Transistor SMD; ki_description: 0.5A Ic, 300V Vce, NPN High Voltage Transistor, SOT-223; ki_fp_filters: SOT?223*; Footprint: Package_TO_SOT_SMD:SOT-223-3_TabPin2; Datasheet: https://www.onsemi.com/pub/Collateral/PZTA42T1-D.PDF
pins: 1 B, 2 C, 3 E

## PZTA92
designator *  value PZTA92  Reference: Q
ki_keywords: PNP High Voltage Transistor; ki_description: 0.5A Ic, 300V Vce, PNP High Voltage Transistor, SOT-223; ki_fp_filters: SOT?223*; Footprint: Package_TO_SOT_SMD:SOT-223-3_TabPin2; Datasheet: https://www.onsemi.com/pub/Collateral/PZTA92T1-D.PDF
pins: 1 B, 2 C, 3 E

## S8050
designator *  value S8050  Reference: Q
ki_keywords: S8050 NPN Low Voltage High Current Transistor; ki_description: 0.7A Ic, 20V Vce, Low Voltage High Current NPN Transistor, TO-92; ki_fp_filters: TO?92*; Footprint: Package_TO_SOT_THT:TO-92_Inline; Datasheet: http://www.unisonic.com.tw/datasheet/S8050.pdf
pins: 1 E, 2 B, 3 C

## S8550
designator *  value S8550  Reference: Q
ki_keywords: S8550 PNP Low Voltage High Current Transistor; ki_description: 0.7A Ic, 20V Vce, Low Voltage High Current PNP Transistor, TO-92; ki_fp_filters: TO?92*; Footprint: Package_TO_SOT_THT:TO-92_Inline; Datasheet: http://www.unisonic.com.tw/datasheet/S8550.pdf
pins: 1 E, 2 B, 3 C

## SSM2210
designator *  value SSM2210  Reference: Q
ki_keywords: audio npn dual; ki_description: Audio Dual Matched NPN transistor, DIP-8/SOIC-8; ki_fp_filters: SOIC*8*3.9x4.9mm*P1.27mm* DIP*8*W7.62mm*; Datasheet: https://www.analog.com/media/en/technical-documentation/obsolete-data-sheets/SSM2210.pdf
part A pins: 1 C1, 2 B1, 3 E1
part B pins: 6 E2, 7 B2, 8 C2

## SSM2220
designator *  value SSM2220  Reference: Q
ki_keywords: audio pnp dual; ki_description: Audio Dual Matched PNP transistor, DIP-8/SOIC-8; ki_fp_filters: SOIC*8*3.9x4.9mm*P1.27mm* DIP*8*W7.62mm*; Datasheet: https://www.analog.com/media/en/technical-documentation/data-sheets/SSM2220.pdf
part A pins: 1 C1, 2 B1, 3 E1
part B pins: 6 E2, 7 B2, 8 C2

## TIP41
designator *  value TIP41  Reference: Q
ki_keywords: power NPN Transistor; ki_description: 6A Ic, 40V Vce, Power NPN Transistor, TO-220; ki_fp_filters: TO?220*; Footprint: Package_TO_SOT_THT:TO-220-3_Vertical; Datasheet: https://www.centralsemi.com/get_document.php?cmp=1&mergetype=pd&mergepath=pd&pdf_id=tip41.PDF
pins: 1 B, 2 C, 3 E

## TIP41A
designator *  value TIP41A  Reference: Q
ki_keywords: power NPN Transistor; ki_description: 6A Ic, 60V Vce, Power NPN Transistor, TO-220; ki_fp_filters: TO?220*; Footprint: Package_TO_SOT_THT:TO-220-3_Vertical; Datasheet: https://www.centralsemi.com/get_document.php?cmp=1&mergetype=pd&mergepath=pd&pdf_id=tip41.PDF
pins: 1 B, 2 C, 3 E

## TIP41B
designator *  value TIP41B  Reference: Q
ki_keywords: power NPN Transistor; ki_description: 6A Ic, 80V Vce, Power NPN Transistor, TO-220; ki_fp_filters: TO?220*; Footprint: Package_TO_SOT_THT:TO-220-3_Vertical; Datasheet: https://www.centralsemi.com/get_document.php?cmp=1&mergetype=pd&mergepath=pd&pdf_id=tip41.PDF
pins: 1 B, 2 C, 3 E

## TIP41C
designator *  value TIP41C  Reference: Q
ki_keywords: power NPN Transistor; ki_description: 6A Ic, 100V Vce, Power NPN Transistor, TO-220; ki_fp_filters: TO?220*; Footprint: Package_TO_SOT_THT:TO-220-3_Vertical; Datasheet: https://www.centralsemi.com/get_document.php?cmp=1&mergetype=pd&mergepath=pd&pdf_id=tip41.PDF
pins: 1 B, 2 C, 3 E

## TIP42
designator *  value TIP42  Reference: Q
ki_keywords: power PNP Transistor; ki_description: -6A Ic, -40V Vce, Power PNP Transistor, TO-220; ki_fp_filters: TO?220*; Footprint: Package_TO_SOT_THT:TO-220-3_Vertical; Datasheet: https://www.centralsemi.com/get_document.php?cmp=1&mergetype=pd&mergepath=pd&pdf_id=TIP42.PDF
pins: 1 B, 2 C, 3 E

## TIP42A
designator *  value TIP42A  Reference: Q
ki_keywords: power PNP Transistor; ki_description: -6A Ic, -60V Vce, Power PNP Transistor, TO-220; ki_fp_filters: TO?220*; Footprint: Package_TO_SOT_THT:TO-220-3_Vertical; Datasheet: https://www.centralsemi.com/get_document.php?cmp=1&mergetype=pd&mergepath=pd&pdf_id=TIP42.PDF
pins: 1 B, 2 C, 3 E

## TIP42B
designator *  value TIP42B  Reference: Q
ki_keywords: power PNP Transistor; ki_description: -6A Ic, -80V Vce, Power PNP Transistor, TO-220; ki_fp_filters: TO?220*; Footprint: Package_TO_SOT_THT:TO-220-3_Vertical; Datasheet: https://www.centralsemi.com/get_document.php?cmp=1&mergetype=pd&mergepath=pd&pdf_id=TIP42.PDF
pins: 1 B, 2 C, 3 E

## TIP42C
designator *  value TIP42C  Reference: Q
ki_keywords: power PNP Transistor; ki_description: -6A Ic, -100V Vce, Power PNP Transistor, TO-220; ki_fp_filters: TO?220*; Footprint: Package_TO_SOT_THT:TO-220-3_Vertical; Datasheet: https://www.centralsemi.com/get_document.php?cmp=1&mergetype=pd&mergepath=pd&pdf_id=TIP42.PDF
pins: 1 B, 2 C, 3 E

## TIP120
designator *  value TIP120  Reference: Q
ki_keywords: Darlington Power NPN Transistor; ki_description: 5A Ic, 60V Vce, Silicon Darlington Power NPN Transistor, TO-220; ki_fp_filters: TO?220*; Footprint: Package_TO_SOT_THT:TO-220-3_Vertical; Datasheet: https://www.onsemi.com/pub/Collateral/TIP120-D.PDF
pins: 1 B, 2 C, 3 E

## TIP121
designator *  value TIP121  Reference: Q
ki_keywords: Darlington Power NPN Transistor; ki_description: 5A Ic, 80V Vce, Silicon Darlington Power NPN Transistor, TO-220; ki_fp_filters: TO?220*; Footprint: Package_TO_SOT_THT:TO-220-3_Vertical; Datasheet: https://www.onsemi.com/pub/Collateral/TIP120-D.PDF
pins: 1 B, 2 C, 3 E

## TIP122
designator *  value TIP122  Reference: Q
ki_keywords: Darlington Power NPN Transistor; ki_description: 5A Ic, 100V Vce, Silicon Darlington Power NPN Transistor, TO-220; ki_fp_filters: TO?220*; Footprint: Package_TO_SOT_THT:TO-220-3_Vertical; Datasheet: https://www.onsemi.com/pub/Collateral/TIP120-D.PDF
pins: 1 B, 2 C, 3 E

## TIP125
designator *  value TIP125  Reference: Q
ki_keywords: Darlington Power PNP Transistor; ki_description: 5A Ic, 60V Vce, Silicon Darlington Power PNP Transistor, TO-220; ki_fp_filters: TO?220*; Footprint: Package_TO_SOT_THT:TO-220-3_Vertical; Datasheet: https://www.onsemi.com/pub/Collateral/TIP120-D.PDF
pins: 1 B, 2 C, 3 E

## TIP126
designator *  value TIP126  Reference: Q
ki_keywords: Darlington Power PNP Transistor; ki_description: 5A Ic, 80V Vce, Silicon Darlington Power PNP Transistor, TO-220; ki_fp_filters: TO?220*; Footprint: Package_TO_SOT_THT:TO-220-3_Vertical; Datasheet: https://www.onsemi.com/pub/Collateral/TIP120-D.PDF
pins: 1 B, 2 C, 3 E

## TIP127
designator *  value TIP127  Reference: Q
ki_keywords: Darlington Power PNP Transistor; ki_description: 5A Ic, 100V Vce, Silicon Darlington Power PNP Transistor, TO-220; ki_fp_filters: TO?220*; Footprint: Package_TO_SOT_THT:TO-220-3_Vertical; Datasheet: https://www.onsemi.com/pub/Collateral/TIP120-D.PDF
pins: 1 B, 2 C, 3 E

## TIP2955
designator *  value TIP2955  Reference: Q
ki_keywords: power PNP Transistor; ki_description: -15A Ic, -60V Vce, Power PNP Transistor, TO-218; ki_fp_filters: TO?218*; Footprint: Package_TO_SOT_THT:TO-218-3_Vertical; Datasheet: http://www.onsemi.com/pub_link/Collateral/TIP3055-D.PDF
pins: 1 B, 2 C, 3 E

## TIP2955G
designator *  value TIP2955G  Reference: Q
ki_keywords: power PNP Transistor; ki_description: -15A Ic, -60V Vce, Power PNP Transistor, TO-247; ki_fp_filters: TO?247*; Footprint: Package_TO_SOT_THT:TO-247-3_Vertical; Datasheet: http://www.onsemi.com/pub_link/Collateral/TIP3055-D.PDF
pins: 1 B, 2 C, 3 E

## TIP3055
designator *  value TIP3055  Reference: Q
ki_keywords: power NPN Transistor; ki_description: 15A Ic, 60V Vce, Power NPN Transistor, TO-218; ki_fp_filters: TO?218*; Footprint: Package_TO_SOT_THT:TO-218-3_Vertical; Datasheet: http://www.onsemi.com/pub_link/Collateral/TIP3055-D.PDF
pins: 1 B, 2 C, 3 E

## TIP3055G
designator *  value TIP3055G  Reference: Q
ki_keywords: power NPN Transistor; ki_description: 15A Ic, 60V Vce, Power NPN Transistor, TO-247; ki_fp_filters: TO?247*; Footprint: Package_TO_SOT_THT:TO-247-3_Vertical; Datasheet: http://www.onsemi.com/pub_link/Collateral/TIP3055-D.PDF
pins: 1 B, 2 C, 3 E

## UMH3N
designator *  value UMH3N  Reference: Q
ki_keywords: Dual NPN Transistor; ki_description: 0.1A Ic, 50V Vce, Dual NPN Input Resistor Transistors, SOT-363; ki_fp_filters: SOT?363*; Footprint: Package_TO_SOT_SMD:SOT-363_SC-70-6; Datasheet: http://rohmfs.rohm.com/en/products/databook/datasheet/discrete/transistor/digital/emh3t2r-e.pdf
part A pins: 1 E1, 2 B1, 6 C1
part B pins: 3 C2, 4 E2, 5 B2